# Altium schematic symbol library 3550100RJT.SchLib: 1 symbol
Pins are listed as number, name and electrical type; pins without a type are passive.

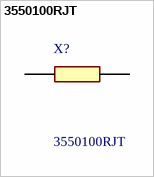
[diagram p0: symbol 3550100RJT]

## 3550100RJT
designator X?
CGS - TE CONNECTIVITY - 3550100RJT - SMD Chip Resistor, 100 ohm, +/- 5%, 5 W, 4320 [11050 Metric], Thick Film, High Power; Geometry.Height: 1.2mm; Mouser Part Number: 279-3550100RJT; Mouser Price/Stock: https://www.mouser.co.uk/ProductDetail/TE-Connectivity-Holsworthy/3550100RJT?qs=gZXFycFWdAMoLDipEZ%252BhPg%3D%3D; Manufacturer_Name: TE Connectivity; Manufacturer_Part_Number: 3550100RJT; Datasheet Link: https://www.te.com/commerce/DocumentDelivery/DDEController?Action=srchrtrv&DocNm=1773204-6&DocType=DS&DocLang=English
footprint RESC11050X120N
pins: 1, 2